# Altium schematic symbol library Term,Header,5x2 Pin,Shroud,1.27mm,SMD.Schlib: 1 symbol
Pins are listed as number, name and electrical type; pins without a type are passive.

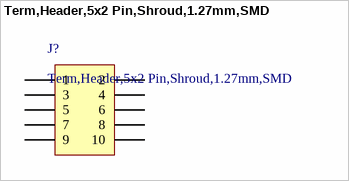
[diagram p0: symbol Term,Header,5x2 Pin,Shroud,1.27mm,SMD]

## Term,Header,5x2 Pin,Shroud,1.27mm,SMD
designator J?
Connector Header Surface Mount 10 position 0.050" (1.27mm)
pins: 1, 2, 3, 4, 5, 6, 7, 8, 9, 10